# EAGLE library part DS1337 (library clocks)
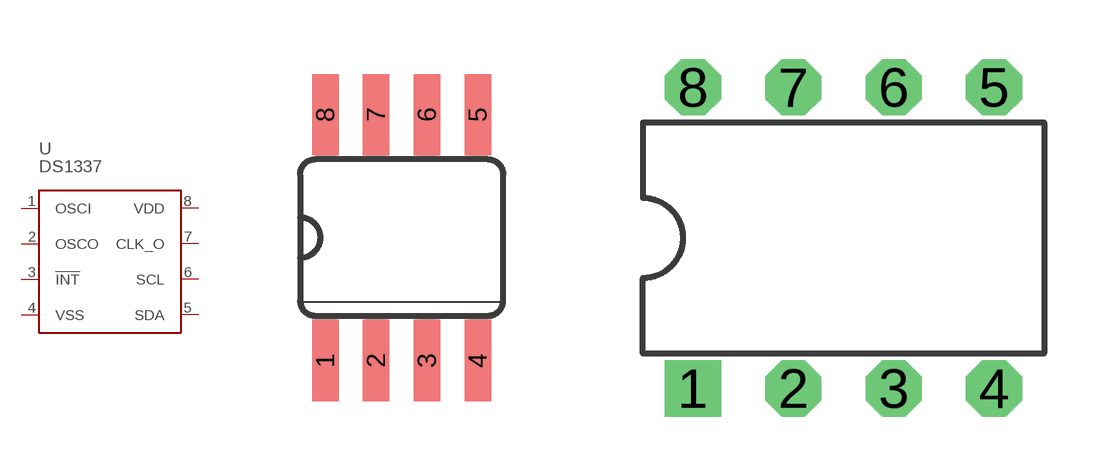
[diagram p2: symbol with the pads of SOIC08; footprints SOIC08, DIP08]

Designator prefix U

## DS1337S  [SOIC08]
1  OSCI
2  OSCO
3  !INT
4  VSS
5  SDA
6  SCL
7  CLK_O
8  VDD

## DS1337D  [DIP08]
Pads as for SOIC08

## Footprint SOIC08 (pad centres in mm)
Small Outline Package
smd 0.66 x 2.032: 1 -1.905,-3.073; 2 -0.635,-3.073; 3 0.635,-3.073; 4 1.905,-3.073; 5 1.905,3.073; 6 0.635,3.073; 7 -0.635,3.073; 8 -1.905,3.073

## Footprint DIP08 (pad centres in mm)
drill 0.7 pad 1.422 square: 1 -3.81,-3.81
drill 0.7 pad 1.422 octagon: 2 -1.27,-3.81; 3 1.27,-3.81; 4 3.81,-3.81; 5 3.81,3.81; 6 1.27,3.81; 7 -1.27,3.81; 8 -3.81,3.81